# EAGLE library part CM5441Z101B-10 (library NewSDR)
Laird 75A 100 Ohm @ 100 MHz Commond Mode Choke
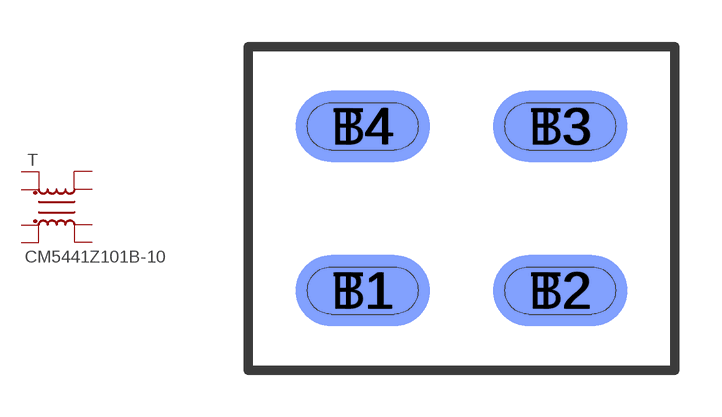
[diagram p195: symbol with the pads of CM5441Z101B-10; footprint CM5441Z101B-10]

Designator prefix T

## CM5441Z101B-10  [CM5441Z101B-10]
B1  B1  pas
B2  B2  pas
B3  B3  pas
B4  B4  pas
T1  T1  pas
T2  T2  pas
T3  T3  pas
T4  T4  pas

## Footprint CM5441Z101B-10 (pad centres in mm)
Laird 75A Commond Mode Choke
smd 4.318 x 2.286 bottom: B1 -3.175,-2.642; B2 3.175,-2.642; B3 3.175,2.642; B4 -3.175,2.642
smd 4.318 x 2.286: T1 -3.175,-2.642; T2 3.175,-2.642; T3 3.175,2.642; T4 -3.175,2.642